# EAGLE library part TPS6200X (library diode-20CJQ030)
Ti's TPS6200x High efficiency Step-Down low power DC-DC Converter Description: The TPS6200x devices are a family of low-noise synchronous step-down dc-dc converters that are ideally suited for systems powered from a 1-cell Li-ion battery or from a 2- to 3-cell NiCd, NiMH, or alkaline battery. The TPS6200x operates typically down to an input voltage of 1.8 V, with a specified minimum input voltage of 2 V. The TPS6200x is a synchronous current-mode PWM converter with integrated N- and P-channel power MOSFET switches. Synchronous rectification is used to increase efficiency and to reduce external component count. To achieve the highest efficiency over a wide load current range, the converter enters a power-saving pulse-frequency modulation (PFM) mode at light load currents. Operating frequency is typically 750 kHz, allowing the use of small inductor and capacitor values. The device can be synchronized to an external clock signal in the range of 500 kHz to 1 MHz. For low-noise operation, the converter can be operated in the PWM mode and the internal antiringing switch reduces noise and EMI. In the shutdown mode, the current consumption is reduced to less than 1 uA. The TPS6200x is available in the 10-pin (DGS) microsmall outline package (MSOP). The TPS62000 is also available in a 12-pin, 1,85 mm x 1,3 mm NanoStar chip scale package (YEG). The devices operate over a free-air temperature range of -40°C to 85°C. Features: High-Efficiency Synchronous Step-Down Converter With Greater Than 95% Efficiency 2 V to 5.5 V Operating Input Voltage Range Adjustable Output Voltage Range From 0.8 V to VI Fixed Output Voltage Options Available in 0.9 V, 1 V, 1.2 V, 1.5 V, 1.8 V, 1.9 V, 2.5 V, and 3.3 V Synchronizable to External Clock Signal up to 1 MHz Up to 600 mA Output Current Pin-Programmable Current Limit High Efficiency Over a Wide Load Current Range in Power Save Mode 100% Maximum Duty Cycle for Lowest Dropout Low-Noise Operation Antiringing Switch and PFM/PWM Operation Mode Internal Softstart 50-uA Quiescent Current (TYP) Available in the 10-Pin Microsmall Outline Package (MSOP) Evaluation Module Available Available in a Ultra-Small, 12-Pin NanoStar (Wafer Chip-Scale) Package APPLICATIONS: Low-Power CPUs and DSPs Cellular Phones Organizers, PDAs, and Handheld PCs MP-3 Portable Audio Players Digital Cameras USB-Based DSL Modems and Other Network Interface Cards Please send any comments to: messi@users.sourceforge.net
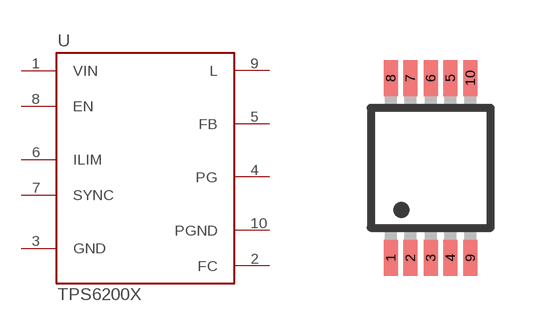
[diagram p139: symbol with the pads of MSOP10; footprint MSOP10]

Designator prefix U

## TPS6200X-DGS  [MSOP10]
1  VIN  pwr
2  FC  pwr
3  GND  pas
4  PG  out
5  FB  in
6  ILIM  in
7  SYNC  in
8  EN  in
9  L
10  PGND  pwr

## Footprint MSOP10 (pad centres in mm)
MSOP10
smd 0.35 x 0.9: 1 -1,-2.25; 2 -0.51,-2.25; 3 0,-2.25; 4 0.49,-2.25; 5 0.49,2.25; 6 0,2.25; 7 -0.51,2.25; 8 -1,2.25; 9 0.99,-2.25; 10 0.99,2.25